# Altium footprint library FUSR_LITTELFUSE_1206L012.PcbLib: 1 footprints
Each footprint in its own frame and in the unit in brackets; x right, y up, seen from the top. Pads: shape width x height; smd on the part's side, far side on the other; paste and mask are expansions set on the pad; w line width, h text height; cw(c..) or ccw(c..) is an arc to the next point about the centre after c.
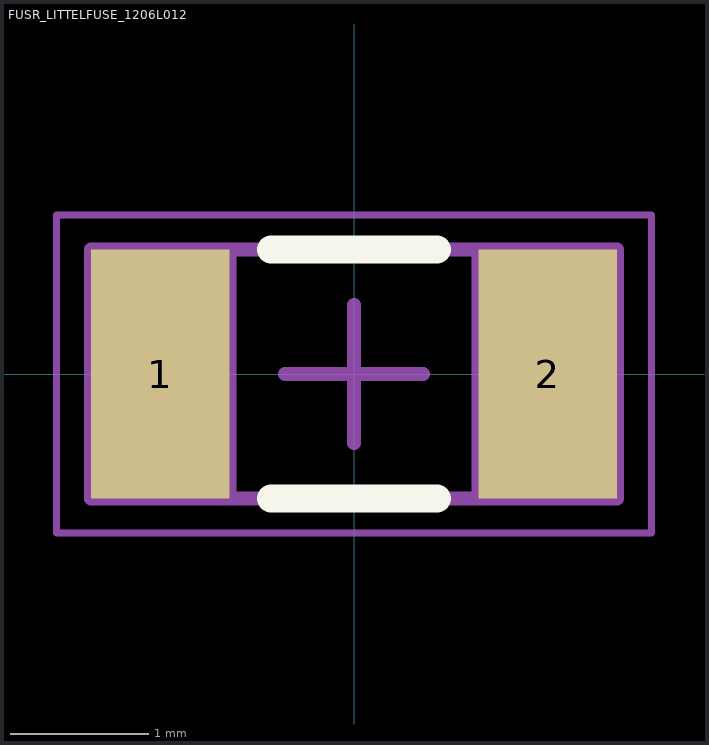
[diagram p0: the footprint, top view; thin cyan lines are the x and y axes]

## FUSR_LITTELFUSE_1206L012 [mm] "Surface Mount POLY-FUSE� Resettable PTC, 1206L Series"
height 1.45
pads (2):
  rect 1x1.8 smd: 1(-1.4,0) 2(1.4,0)
Top Overlay:
  lines w0.2: -0.6,-0.9 0.6,-0.9 ; -0.6,0.9 0.6,0.9
Mechanical 8:
  lines w0.1: -1.9,0 -1.4,0 ; -1.4,-0.5 -1.4,0 ; -1.4,0.5 -1.4,0 ; -0.9,0 -1.4,0 ; -0.5,0 0,0 ; 0,-0.5 0,0 ; 0,0.5 0,0 ; 0.5,0 0,0 ; 0.9,0 1.4,0 ; 1.4,-0.5 1.4,0 ; 1.4,0.5 1.4,0 ; 1.9,0 1.4,0 ; -1.9,-0.9 -0.9,-0.9 -0.9,0.9 -1.9,0.9 -1.9,-0.9 ; 0.9,-0.9 0.9,0.9 1.9,0.9 1.9,-0.9 0.9,-0.9
Mechanical 14:
  lines w0.1: -1,-0.9 -1,0.9 ; 1,-0.9 1,0.9 ; -1.75,-0.9 1.75,-0.9 1.75,-0.225 cw(c1.75,0) 1.75,0.225 1.75,0.9 -1.75,0.9 -1.75,0.225 cw(c-1.75,0) -1.75,-0.225 -1.75,-0.9
Mechanical 15:
  lines w0.05: -2.15,-1.15 -2.15,1.15 2.15,1.15 2.15,-1.15 -2.15,-1.15
3D body "FUSR_LITTELFUSE_1206L012.stp": height 1.45, standoff 0, extent -1.75,-0.9 1.75,0.9